# Altium footprint library ZB SMT.PcbLib: 1 footprints
Each footprint in its own frame and in the unit in brackets; x right, y up, seen from the top. Pads: shape width x height; smd on the part's side, far side on the other; paste and mask are expansions set on the pad; w line width, h text height; cw(c..) or ccw(c..) is an arc to the next point about the centre after c.
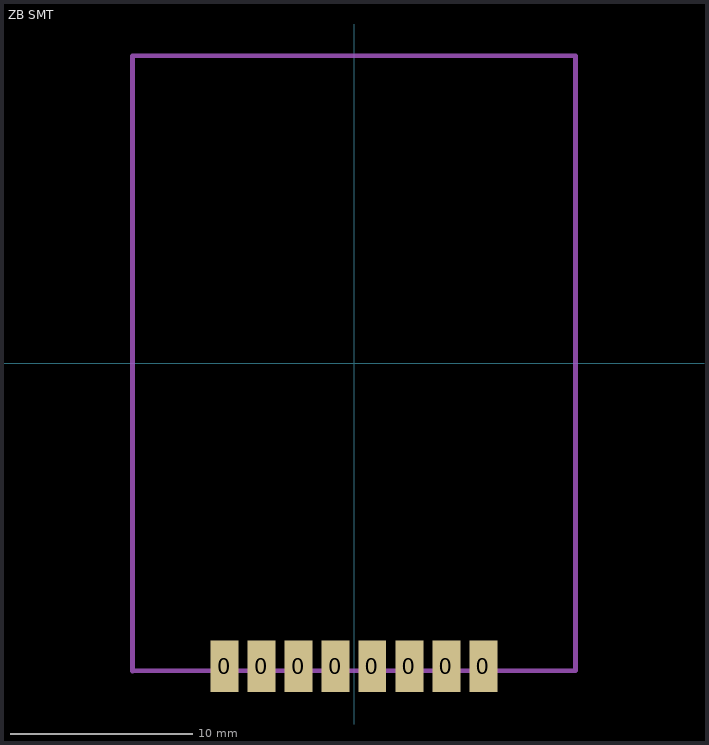
[diagram p0: the footprint, top view; thin cyan lines are the x and y axes]

## ZB SMT [mil]
pads (8):
  rect 60x112 smd: 0(-280,-655) 0(-200,-655) 0(-120,-655) 0(-40,-655) 0(39.5,-655) 0(120,-655) 0(200,-655) 0(280,-655)
Top Courtyard:
  lines w10: -479,-665.1 -479,665 479,665 479,-665 -479,-665